# Altium footprint library PcbLib1.PcbLib: 8 footprints
Each footprint in its own frame and in the unit in brackets; x right, y up, seen from the top. Pads: shape width x height; smd on the part's side, far side on the other; paste and mask are expansions set on the pad; w line width, h text height; cw(c..) or ccw(c..) is an arc to the next point about the centre after c.
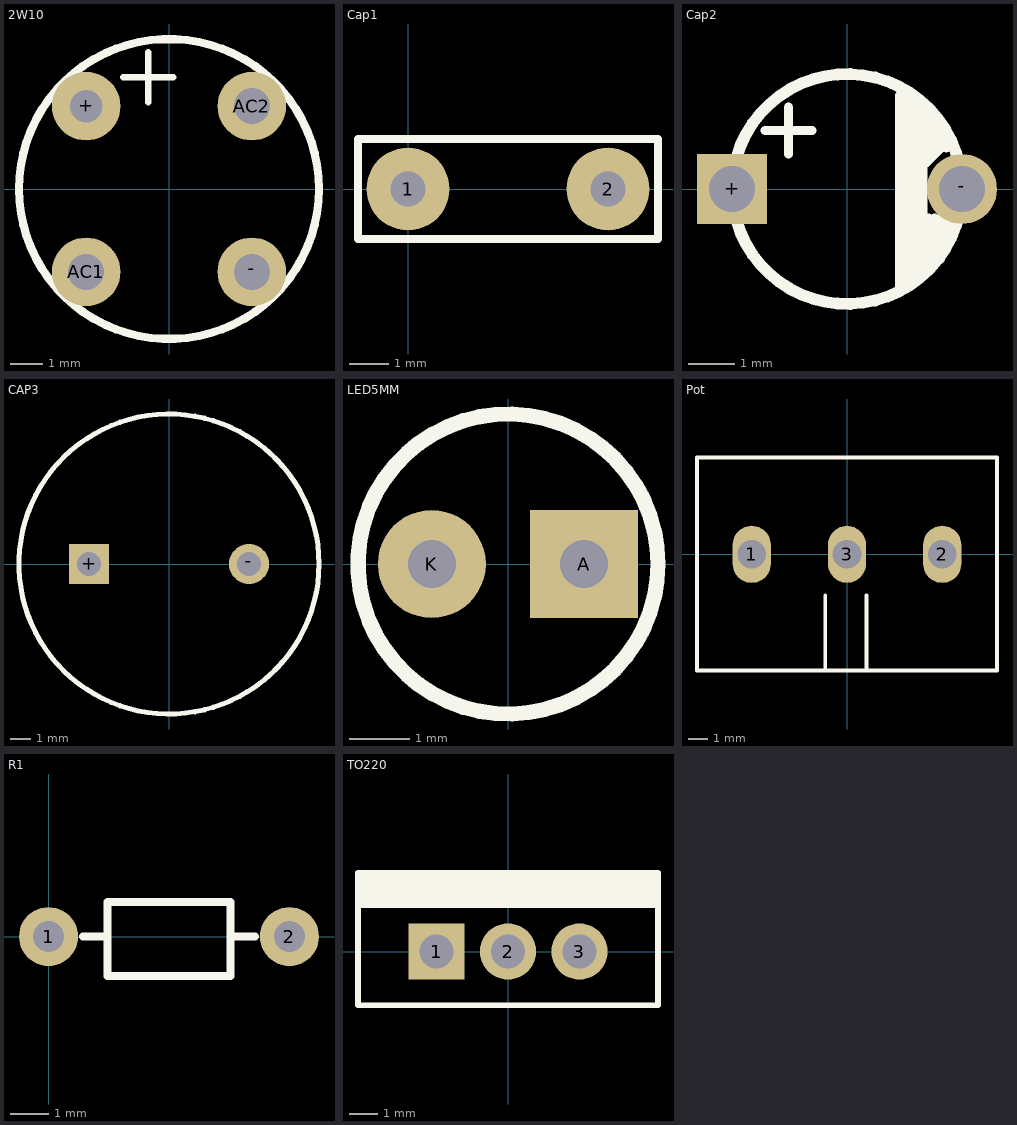
[diagram p0: the footprints below, top view; thin cyan lines are the x and y axes]

## 2W10 [mm] "KopruDiyot"
pads (4):
  round 2.1 hole 1: +(-2.54,2.54)
  round 2.1 hole 1.1: -(2.54,-2.54) AC1(-2.54,-2.54) AC2(2.54,2.54)
Top Overlay:
  circle w0.254: c0,0 r4.6
  lines w0.2: -1.397,3.429 0.127,3.429 ; -0.635,2.667 -0.635,4.191
3D body: height 8, standoff -10, extent -4.373,-4.627 4.627,4.373

## Cap1 [mm] "100nF"
pads (2):
  round 2.1 hole 0.9: 1(0,0) 2(5.08,0)
Top Overlay:
  lines w0.2: -1.27,-1.27 -1.27,1.27 6.35,1.27 6.35,-1.27 -1.27,-1.27
3D body: height 8.6, standoff -3.6, extent -1.21,-1.25 6.29,1.25

## Cap2 [mm] "1uF"
pads (2):
  rect 1.524x1.524 hole 1: +(-2.5,0)
  round 1.524 hole 1: -(2.5,0)
Top Overlay:
  circle w0.254: c0,0 r2.5
  lines w0.1: 1.651,0.762 1.905,0.762
  lines w0.2: -1.778,1.27 -0.762,1.27 ; -1.27,0.762 -1.27,1.778 ; 1.143,-2.159 1.143,2.032 ; 1.27,-2.032 1.27,2.032 ; 1.397,-1.905 1.397,2.032 ; 1.46,0.318 1.905,0.762 ; 1.524,-1.778 1.524,1.905 ; 1.651,-1.778 1.651,1.778 ; 1.778,-1.524 1.778,-0.635 ; 1.778,0.762 1.778,1.651 ; 1.905,-1.524 1.905,-0.635 ; 1.905,1.651 1.905,0.762 ; 2.032,-1.524 2.032,-0.635 ; 2.032,1.27 2.032,0.889 1.905,0.762 ; 2.159,-1.27 2.159,-0.635 ; 2.159,0.889 2.159,1.27
3D body: height 14.7, standoff -1.9, extent -2.79,-2.412 2.79,2.667

## CAP3 [mm] "2200uF"
pads (2):
  rect 2x2 hole 1.2: +(-4,0)
  round 2 hole 1.2: -(4,0)
Top Overlay:
  circle w0.254: c0,0 r7.5
3D body: height 26.9, standoff -2, extent -8.233,-8.23 8.25,8.231

## LED5MM [mm] "Led5mm"
pads (2):
  rect 1.8x1.8 hole 0.8: A(1.27,0)
  round 1.8 hole 0.8: K(-1.27,0)
Top Overlay:
  circle w0.254: c0,0 r2.5
3D body: height 12.6, standoff -3, extent -2.95,-2.95 2.95,2.95

## Pot [mm] "Pot"
pads (3):
  oval 2x3 hole 1.5: 1(-5,0) 2(5,0) 3(0,0)
Top Overlay:
  lines w0.2: -1.143,-6.096 -1.143,-2.159 ; 1.016,-6.096 1.016,-2.159 ; -7.874,-6.096 -7.874,5.08 7.874,5.08 7.874,-6.096 -7.874,-6.096
3D body: height 20.62, standoff -4, extent -7.874,-20.605 7.874,4.953

## R1 [mil] "R 1/4W"
pads (2):
  round 60 hole 31.5: 1(0,0) 2(245,0)
Top Overlay:
  lines w7.87: 35,0 60,0 ; 185,0 210,0 ; 60,-40 185,-40 185,35 60,35 60,-40
3D body: height 75.68, standoff -78.74, extent -14.99,-36.23 255,36.25

## TO220 [mm] "LM317"
pads (3):
  rect 2x2 hole 1.2: 1(-2.54,0)
  round 2 hole 1.2: 2(0,0) 3(2.54,0)
Top Overlay:
  lines w0.2: -5.334,1.651 5.334,1.651 ; -5.334,1.778 5.334,1.778 ; -5.334,1.905 5.334,1.905 ; -5.334,2.032 5.334,2.032 ; -5.334,2.159 5.334,2.159 ; -5.334,2.286 5.334,2.286 ; -5.334,2.413 5.334,2.413 ; -5.334,2.54 5.334,2.54 ; -5.334,2.667 5.334,2.667 ; -5.334,-1.905 -5.334,2.794 5.334,2.794 5.334,-1.905 -5.334,-1.905
3D body: height 22, standoff -6.4, extent -5.2,-1.833 5.2,2.667